# Altium schematic symbol library Schlib2.SchLib: 5 symbols
Pins are listed as number, name and electrical type; pins without a type are passive.

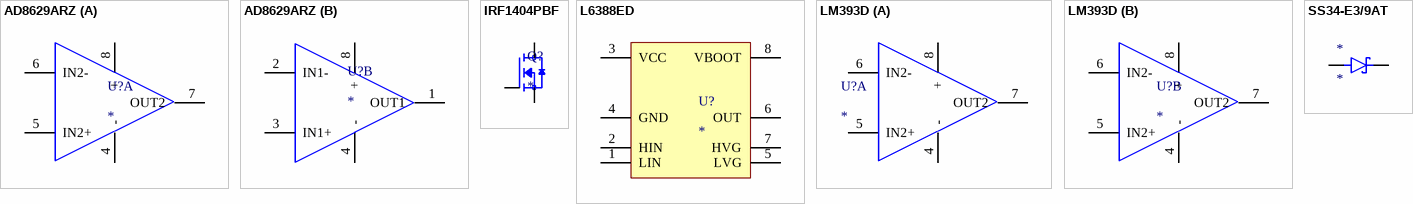
[diagram p0: symbols AD8629ARZ to SS34-E3/9AT]

## AD8629ARZ
designator U?
IC OPAMP ZERO-DRIFT 2 CIRC 8SOIC Zero-Drift Amplifier 2 Circuit Rail-to-Rail 8-SOIC; Manufacturer: Analog Devices; Manufacturer Part Number: AD8629ARZ; Manufacturer Lifecycle Status: PRODUCTION; -3db Bandwidth: 2.5MHz; Common Mode Rejection Ratio: 140dB; Gain: 120dB; Input Bias Current: 30pA; Input Capacitance: 10pF; Input Offset Voltage (Vos): 5µV; Max Dual Supply Voltage: 2.5V; Max Supply Current: 2.2mA; Max Supply Voltage: 5V; Min Dual Supply Voltage: 1.35V; Min Supply Voltage: 2.7V; Number of Amplifiers: 2; Operating Supply Voltage: 3V; Output Current per Channel: 30mA; Power Supply Rejection Ratio (PSRR): 130dB; Quiescent Current: 1.1mA; Slew Rate: 1V/µs; Voltage Gain: 145dB; Supplier 1: Arrow Electronics; RoHS: Compliant; Category: Amplifiers - Op Amps, Buffer, Instrumentation; Stock 1: 3408; Pricing 1: 1=6,808, 10=4,527, 25=3,207, 98=2,961, 294=2,8, 588=2,655 (USD); Bandwidth: 2.5MHz; Case/Package: R; Contact Plating: Tin; Gain Bandwidth Product: 2.5MHz; Height: 1.5mm; Length: 5mm; Lifecycle Status: Production; Max Operating Temperature: 125°C; Min Operating Temperature: -40°C; Number of Channels: 2; Number of Circuits: 2; Number of Elements: 2; Number of Pins: 8; Operating Supply Current: 2.2mA; Radiation Hardening: No; REACH SVHC: No; Schedule B: 8542330000; Width: 4mm; ComponentLink1URL: https://datasheet.octopart.com:443/AD8629ARZ-Analog-Devices-datasheet-42968418.pdf?src-supplier=Analog+Devices; ComponentLink1Description: https://datasheet.octopart.com:443/AD8629ARZ-Analog-Devices-datasheet-42968418.pdf?src-supplier=Analog+Devices; ComponentLink2URL: https://octopart.com:443/opatz8j6/c1?t=aWeMBPM-JELAnCcbC-n1WTTrasgumx2A8BiJtAhLoS8u_17NOkMzPt3gzRWoakvQXXH3NC3R8gFX4G48g061UaBXGwogGE1Uj-8sqvtrqgK1sY7jDh3eWAwH1CQwPW1Jv6IADWKJqAiwnXxASv0RMDRSm7LbjcggLYfRMDkPTzyCQChyI1msocHWpd5h7OrGjev3Iz3E-o2_l5cB9yrdImHcqb4LtoQO-WcXBt-1DHy8NwqhYNIhrkYjFsx4VNs9gn0Mq788wCztvxO1GP0L9zgs0I_y0NnBDPP4_fEzu3H-nfdZ63w&src-supplier=Analog+Devices; ComponentLink2Description: https://octopart.com:443/opatz8j6/c1?t=aWeMBPM-JELAnCcbC-n1WTTrasgumx2A8BiJtAhLoS8u_17NOkMzPt3gzRWoakvQXXH3NC3R8gFX4G48g061UaBXGwogGE1Uj-8sqvtrqgK1sY7jDh3eWAwH1CQwPW1Jv6IADWKJqAiwnXxASv0RMDRSm7LbjcggLYfRMDkPTzyCQChyI1msocHWpd5h7OrGjev3Iz3E-o2_l5cB9yrdImHcqb4LtoQO-WcXBt-1DHy8NwqhYNIhrkYjFsx4VNs9gn0Mq788wCztvxO1GP0L9zgs0I_y0NnBDPP4_fEzu3H-nfdZ63w&src-supplier=Analog+Devices; ComponentLink3URL: https://datasheet.octopart.com:443/AD8629ARZ-Analog-Devices-datasheet-10103768.pdf?src-supplier=Upverter; ComponentLink3Description: https://datasheet.octopart.com:443/AD8629ARZ-Analog-Devices-datasheet-10103768.pdf?src-supplier=Upverter; ComponentLink4URL: https://datasheet.octopart.com:443/AD8629ARZ-Analog-Devices-datasheet-5322301.pdf?src-supplier=Upverter; ComponentLink4Description: https://datasheet.octopart.com:443/AD8629ARZ-Analog-Devices-datasheet-5322301.pdf?src-supplier=Upverter; ComponentLink5URL: https://datasheet.octopart.com:443/AD8629ARZ-Analog-Devices-datasheet-23752859.pdf?src-supplier=Upverter; ComponentLink5Description: https://datasheet.octopart.com:443/AD8629ARZ-Analog-Devices-datasheet-23752859.pdf?src-supplier=Upverter; ComponentLink6URL: https://datasheet.octopart.com:443/AD8629ARZ-Analog-Devices-datasheet-8858042.pdf?src-supplier=Upverter; ComponentLink6Description: https://datasheet.octopart.com:443/AD8629ARZ-Analog-Devices-datasheet-8858042.pdf?src-supplier=Upverter; ComponentLink7URL: https://datasheet.octopart.com:443/AD8629ARZ-Analog-Devices-datasheet-32048149.pdf?src-supplier=element14+APAC; ComponentLink7Description: https://datasheet.octopart.com:443/AD8629ARZ-Analog-Devices-datasheet-32048149.pdf?src-supplier=element14+APAC; ComponentLink8URL: https://datasheet.octopart.com:443/AD8629ARZ-Analog-Devices-datasheet-101563144.pdf?src-supplier=element14+APAC; ComponentLink8Description: https://datasheet.octopart.com:443/AD8629ARZ-Analog-Devices-datasheet-101563144.pdf?src-supplier=element14+APAC; ComponentLink9URL: https://datasheet.octopart.com:443/AD8629ARZ-Analog-Devices-datasheet-9458.pdf?src-supplier=TME; ComponentLink9Description: https://datasheet.octopart.com:443/AD8629ARZ-Analog-Devices-datasheet-9458.pdf?src-supplier=TME; ComponentLink10URL: https://datasheet.octopart.com:443/AD8629ARZ-Analog-Devices-datasheet-14139723.pdf?src-supplier=iiiC; ComponentLink10Description: https://datasheet.octopart.com:443/AD8629ARZ-Analog-Devices-datasheet-14139723.pdf?src-supplier=iiiC; ComponentLink11URL: https://datasheet.octopart.com:443/AD8629ARZ-Analog-Devices-datasheet-9815337.pdf?src-supplier=RS+(Formerly+Allied+Electronics); ComponentLink11Description: https://datasheet.octopart.com:443/AD8629ARZ-Analog-Devices-datasheet-9815337.pdf?src-supplier=RS+(Formerly+Allied+Electronics); ComponentLink12URL: http://sigma.octopart.com:80/conflict_mineral_statement/Analog-Devices-company-33.pdf?src-supplier=Compliance+Statements; ComponentLink12Description: http://sigma.octopart.com:80/conflict_mineral_statement/Analog-Devices-company-33.pdf?src-supplier=Compliance+Statements; ComponentLink13URL: https://octopart.com:443/opatz8j6/c1?t=GuIiLQSqHR5UtH-ccvOgZ_rMPgdoDO9MBhNGz1lrC6uFtX1Ty2dLJJE3esEi3LdxH2WSZGSDEcND3r14vXW1YQGdY8YbjY8rd4j2rV3vc971hwplIN7mnrJEC29glHuaUEUKb6evx9vL8H9Okke6qfKuVvzeC_JtJbwHi1gEpzxsUdW9RNtRF7Nil8ktKupsHU6F-uGzSovI8YJeOX7T-MxaDqzLTa9fFFbbKuS3iXo0ronF4OJTx1UqYg6AqVsvYcdlTWC_iXVQ4-Dde1iCmj54rakYuCUCE_xobSzT3w-tBTMj6Ew&src-supplier=Compliance+Statements; ComponentLink13Description: https://octopart.com:443/opatz8j6/c1?t=GuIiLQSqHR5UtH-ccvOgZ_rMPgdoDO9MBhNGz1lrC6uFtX1Ty2dLJJE3esEi3LdxH2WSZGSDEcND3r14vXW1YQGdY8YbjY8rd4j2rV3vc971hwplIN7mnrJEC29glHuaUEUKb6evx9vL8H9Okke6qfKuVvzeC_JtJbwHi1gEpzxsUdW9RNtRF7Nil8ktKupsHU6F-uGzSovI8YJeOX7T-MxaDqzLTa9fFFbbKuS3iXo0ronF4OJTx1UqYg6AqVsvYcdlTWC_iXVQ4-Dde1iCmj54rakYuCUCE_xobSzT3w-tBTMj6Ew&src-supplier=Compliance+Statements; Supplier Part Number 1: AD8629ARZ
footprint AD8629ARZ
part A pins: 4 -, 5 IN2+, 6 IN2-, 7 OUT2, 8 +
part B pins: 1 OUT1, 2 IN1-, 3 IN1+, 4 -, 8 +

## IRF1404PBF
designator Q?
Single N-Channel 40 V 0.004 Ohm 196 nC HEXFET® Power Mosfet - TO-220-3; Manufacturer: Infineon; Manufacturer Part Number: IRF1404PBF; Continuous Drain Current (ID): 75A; Current Rating: 162A; Drain to Source Breakdown Voltage: 40V; Drain to Source Resistance: 4mΩ; Fall Time: 33ns; Gate to Source Voltage (Vgs): 20V; Input Capacitance: 5.669nF; Max Junction Temperature (Tj): 175°C; Max Power Dissipation: 200W; Nominal Vgs: 4V; Number of Channels: 1; Recovery Time: 117ns; Rise Time: 190ns; Turn-Off Delay Time: 46ns; Turn-On Delay Time: 17ns; Supplier 1: Arrow Electronics; RoHS: Compliant; Category: MOSFETs; Stock 1: 284019; Pricing 1: 1=0,5792 (USD); Case/Package: TO-220AB; China RoHS: Non-Compliant; Contact Plating: Tin; Drain to Source Voltage (Vdss): 40V; Dual Supply Voltage: 40V; Element Configuration: Single; Height: 19.8mm; Lead Free: Lead Free; Lead Pitch: 2.54mm; Length: 10.668mm; Lifecycle Status: Production; Max Operating Temperature: 175°C; Min Breakdown Voltage: 40V; Min Operating Temperature: -55°C; Mount: Through Hole; Number of Elements: 1; Number of Pins: 3; Number of Terminals: 3; On-State Resistance: 4mΩ; Package Quantity: 1000; Packaging: Bulk; Power Dissipation: 200W; Radiation Hardening: No; Rds On Max: 4mΩ; REACH SVHC: Yes; Resistance: 4mΩ; Schedule B: 8541290080, 8541290080|8541290080, 8541290080|8541290080|8541290080, 8541290080|8541290080|8541290080|8541290080; Termination: Through Hole; Threshold Voltage: 4V; Voltage Rating (DC): 40V; Width: 4.826mm; ComponentLink1URL: https://datasheet.octopart.com:443/IRF1404PBF-Infineon-datasheet-180066866.pdf?src-supplier=IHS; ComponentLink1Description: https://datasheet.octopart.com:443/IRF1404PBF-Infineon-datasheet-180066866.pdf?src-supplier=IHS; ComponentLink2URL: https://datasheet.octopart.com:443/IRF1404PBF-Infineon-datasheet-62314054.pdf?src-supplier=IHS; ComponentLink2Description: https://datasheet.octopart.com:443/IRF1404PBF-Infineon-datasheet-62314054.pdf?src-supplier=IHS; ComponentLink3URL: https://datasheet.octopart.com:443/IRF1404PBF-Infineon-datasheet-8117651.pdf?src-supplier=IHS; ComponentLink3Description: https://datasheet.octopart.com:443/IRF1404PBF-Infineon-datasheet-8117651.pdf?src-supplier=IHS; ComponentLink4URL: https://datasheet.octopart.com:443/IRF1404PBF-Infineon-datasheet-10898762.pdf?src-supplier=Factory+Futures; ComponentLink4Description: https://datasheet.octopart.com:443/IRF1404PBF-Infineon-datasheet-10898762.pdf?src-supplier=Factory+Futures; ComponentLink5URL: https://datasheet.octopart.com:443/IRF1404PBF-Infineon-datasheet-8329159.pdf?src-supplier=Factory+Futures; ComponentLink5Description: https://datasheet.octopart.com:443/IRF1404PBF-Infineon-datasheet-8329159.pdf?src-supplier=Factory+Futures; ComponentLink6URL: https://datasheet.octopart.com:443/IRF1404PBF-International-Rectifier-datasheet-7273.pdf?src-supplier=Newark; ComponentLink6Description: https://datasheet.octopart.com:443/IRF1404PBF-International-Rectifier-datasheet-7273.pdf?src-supplier=Newark; ComponentLink7URL: https://datasheet.octopart.com:443/IRF1404PBF-International-Rectifier-datasheet-14061466.pdf?src-supplier=iiiC; ComponentLink7Description: https://datasheet.octopart.com:443/IRF1404PBF-International-Rectifier-datasheet-14061466.pdf?src-supplier=iiiC; ComponentLink8URL: https://datasheet.octopart.com:443/IRF1404-International-Rectifier-datasheet-10847710.pdf?src-supplier=iiiC; ComponentLink8Description: https://datasheet.octopart.com:443/IRF1404-International-Rectifier-datasheet-10847710.pdf?src-supplier=iiiC; ComponentLink9URL: https://datasheet.octopart.com:443/IRF1404PBF-Infineon-datasheet-10021476.pdf?src-supplier=RS+(Formerly+Allied+Electronics); ComponentLink9Description: https://datasheet.octopart.com:443/IRF1404PBF-Infineon-datasheet-10021476.pdf?src-supplier=RS+(Formerly+Allied+Electronics); ComponentLink10URL: https://datasheet.octopart.com:443/IRF1404PBF-International-Rectifier-datasheet-7628077.pdf?src-supplier=Jameco; ComponentLink10Description: https://datasheet.octopart.com:443/IRF1404PBF-International-Rectifier-datasheet-7628077.pdf?src-supplier=Jameco; ComponentLink11URL: https://datasheet.octopart.com:443/IRF1404PBF-International-Rectifier-datasheet-8134560.pdf?src-supplier=Farnell; ComponentLink11Description: https://datasheet.octopart.com:443/IRF1404PBF-International-Rectifier-datasheet-8134560.pdf?src-supplier=Farnell; ComponentLink12URL: https://datasheet.octopart.com:443/IRF1404PBF-International-Rectifier-datasheet-90335.pdf?src-supplier=DigiKey; ComponentLink12Description: https://datasheet.octopart.com:443/IRF1404PBF-International-Rectifier-datasheet-90335.pdf?src-supplier=DigiKey; ComponentLink13URL: http://sigma.octopart.com:80/conflict_mineral_statement/Infineon-company-51.pdf?src-supplier=Compliance+Statements; ComponentLink13Description: http://sigma.octopart.com:80/conflict_mineral_statement/Infineon-company-51.pdf?src-supplier=Compliance+Statements; ComponentLink14URL: http://sigma.octopart.com:80/rohs_statement/International-Rectifier-company-54.pdf?src-supplier=Compliance+Statements; ComponentLink14Description: http://sigma.octopart.com:80/rohs_statement/International-Rectifier-company-54.pdf?src-supplier=Compliance+Statements; ComponentLink15URL: http://sigma.octopart.com:80/reach_statement/International-Rectifier-company-55.pdf?src-supplier=Compliance+Statements; ComponentLink15Description: http://sigma.octopart.com:80/reach_statement/International-Rectifier-company-55.pdf?src-supplier=Compliance+Statements; Supplier Part Number 1: IRF1404PBF
footprint TO220 AB
pins: 1 G, 2 D, 3 S

## L6388ED
designator U?
Driver 2-OUT High and Low Side Half Brdg 8-Pin SO N Tube / IC DRIVER HI/LO SIDE HV 8-SOIC; Manufacturer: STMicroelectronics; Manufacturer Part Number: L6388ED; Fall Time: 80ns; Frequency: 400kHz; Max Output Current: 650mA; Max Power Dissipation: 750mW; Max Supply Voltage: 17V; Min Supply Voltage: 9.6V; Number of Channels: 2; Number of Circuits: 1; Operating Supply Voltage: 15V; Output Voltage: 580V; Propagation Delay: 300ns; Rise Time: 100ns; Turn-Off Delay Time: 220ns; Turn-On Delay Time: 300ps; Undervoltage Threshold: 8.3V; Supplier 1: Arrow Electronics; RoHS: Compliant; Category: Gate Drivers; Stock 1: 2600; Pricing 1: 1=1,0333 (USD); Case/Package: SOIC; China RoHS: Compliant; Height: 1.25mm; Height - Seated (Max): 1.75mm; Lead Free: Lead Free; Length: 4.9mm; Lifecycle Status: Production; Max Frequency: 400kHz; Max Operating Temperature: 125°C; Min Operating Temperature: -45°C; Mount: Surface Mount; Number of Drivers: 2; Number of Outputs: 2; Number of Pins: 8; Number of Terminals: 8; Output Current: 650mA; Power Dissipation: 750mW; Radiation Hardening: No; REACH SVHC: Yes; Schedule B: 8542390000; Terminal Pitch: 1.27mm; Width: 3.9mm; ComponentLink1URL: https://datasheet.octopart.com:443/L6388ED-STMicroelectronics-datasheet-62333103.pdf?src-supplier=SHENGYU+ELECTRONICS; ComponentLink1Description: https://datasheet.octopart.com:443/L6388ED-STMicroelectronics-datasheet-62333103.pdf?src-supplier=SHENGYU+ELECTRONICS; ComponentLink2URL: https://datasheet.octopart.com:443/L6388ED-STMicroelectronics-datasheet-11582381.pdf?src-supplier=STMicroelectronics; ComponentLink2Description: https://datasheet.octopart.com:443/L6388ED-STMicroelectronics-datasheet-11582381.pdf?src-supplier=STMicroelectronics; ComponentLink3URL: https://datasheet.octopart.com:443/L6388ED-STMicroelectronics-datasheet-10836942.pdf?src-supplier=STMicroelectronics; ComponentLink3Description: https://datasheet.octopart.com:443/L6388ED-STMicroelectronics-datasheet-10836942.pdf?src-supplier=STMicroelectronics; ComponentLink4URL: https://datasheet.octopart.com:443/L6388ED-STMicroelectronics-datasheet-14897280.pdf?src-supplier=Newark; ComponentLink4Description: https://datasheet.octopart.com:443/L6388ED-STMicroelectronics-datasheet-14897280.pdf?src-supplier=Newark; ComponentLink5URL: https://datasheet.octopart.com:443/L6388ED-STMicroelectronics-datasheet-33008772.pdf?src-supplier=Newark; ComponentLink5Description: https://datasheet.octopart.com:443/L6388ED-STMicroelectronics-datasheet-33008772.pdf?src-supplier=Newark; ComponentLink6URL: https://datasheet.octopart.com:443/L6388ED-STMicroelectronics-datasheet-12523894.pdf?src-supplier=Future+Electronics; ComponentLink6Description: https://datasheet.octopart.com:443/L6388ED-STMicroelectronics-datasheet-12523894.pdf?src-supplier=Future+Electronics; ComponentLink7URL: https://datasheet.octopart.com:443/L6388ED-STMicroelectronics-datasheet-551241.pdf?src-supplier=Future+Electronics; ComponentLink7Description: https://datasheet.octopart.com:443/L6388ED-STMicroelectronics-datasheet-551241.pdf?src-supplier=Future+Electronics; ComponentLink8URL: https://datasheet.octopart.com:443/L6388ED-STMicroelectronics-datasheet-14156329.pdf?src-supplier=iiiC; ComponentLink8Description: https://datasheet.octopart.com:443/L6388ED-STMicroelectronics-datasheet-14156329.pdf?src-supplier=iiiC; Supplier Part Number 1: L6388ED
footprint SOIC 8
pins: 1 LIN, 2 HIN, 3 VCC, 4 GND, 5 LVG, 6 OUT, 7 HVG, 8 VBOOT

## LM393D
designator U?
LM393 Series Dual 36 V 250 nA SMT Low Power Voltage Comparator - SOIC-8; Manufacturer: STMicroelectronics; Manufacturer Part Number: LM393D; Dual Supply Voltage: 9V; Input Bias Current: 250nA; Input Offset Voltage (Vos): 9mV; Max Dual Supply Voltage: 18V; Max Junction Temperature (Tj): 150°C; Max Power Dissipation: 710mW; Max Supply Current: 2.5mA; Max Supply Voltage: 36V; Min Dual Supply Voltage: 1V; Min Supply Voltage: 2V; Natural Thermal Resistance: 125°C/W; Nominal Supply Current: 1mA; Number of Channels: 2; Operating Supply Voltage: 5V; Output Current per Channel: 18mA; Output Type: TTL; Propagation Delay: 1.3µs; Voltage Gain: 106.02dB; Supplier 1: Arrow Electronics; RoHS: Compliant; Category: Comparators; Stock 1: 279976; Pricing 1: 1=0,3302, 10=0,325, 25=0,324, 100=0,322, 250=0,32, 2000=0,319, 4000=0,238 (USD); Ambient Temperature Range High: 70°C; Case/Package: SO; China RoHS: Compliant; Height: 1.75mm; Height - Seated (Max): 1.75mm; Lead Free: Lead Free; Length: 4.9mm; Lifecycle Status: Production; Max Input Current: 250nA; Max Operating Temperature: 70°C; Min Operating Temperature: 0°C; Mount: Surface Mount; Number of Circuits: 2; Number of Elements: 2; Number of Pins: 8; Number of Terminals: 8; Power Dissipation: 710mW; Quiescent Current: 2.5mA; Radiation Hardening: No; REACH SVHC: Yes; Response Time: 1.3µs; Schedule B: 8542390000, 8542390000|8542390000, 8542390000|8542390000|8542390000, 8542390000|8542390000|8542390000|8542390000; Terminal Pitch: 1.27mm; Turn-On Delay Time: 1.3µs; Type: General Purpose; Weight: 4.535924g; Width: 3.9mm; ComponentLink1URL: https://datasheet.octopart.com:443/LM393D-STMicroelectronics-datasheet-62333484.pdf?src-supplier=SHENGYU+ELECTRONICS; ComponentLink1Description: https://datasheet.octopart.com:443/LM393D-STMicroelectronics-datasheet-62333484.pdf?src-supplier=SHENGYU+ELECTRONICS; ComponentLink2URL: https://datasheet.octopart.com:443/LM393D-STMicroelectronics-datasheet-11803910.pdf?src-supplier=element14+APAC; ComponentLink2Description: https://datasheet.octopart.com:443/LM393D-STMicroelectronics-datasheet-11803910.pdf?src-supplier=element14+APAC; ComponentLink3URL: https://datasheet.octopart.com:443/LM393D-STMicroelectronics-datasheet-10410545.pdf?src-supplier=Future+Electronics; ComponentLink3Description: https://datasheet.octopart.com:443/LM393D-STMicroelectronics-datasheet-10410545.pdf?src-supplier=Future+Electronics; ComponentLink4URL: https://datasheet.octopart.com:443/LM393D-STMicroelectronics-datasheet-21220619.pdf?src-supplier=Future+Electronics; ComponentLink4Description: https://datasheet.octopart.com:443/LM393D-STMicroelectronics-datasheet-21220619.pdf?src-supplier=Future+Electronics; ComponentLink5URL: https://datasheet.octopart.com:443/LM393D-STMicroelectronics-datasheet-14897319.pdf?src-supplier=TME; ComponentLink5Description: https://datasheet.octopart.com:443/LM393D-STMicroelectronics-datasheet-14897319.pdf?src-supplier=TME; ComponentLink6URL: https://datasheet.octopart.com:443/LM393D-STMicroelectronics-datasheet-163154.pdf?src-supplier=element14; ComponentLink6Description: https://datasheet.octopart.com:443/LM393D-STMicroelectronics-datasheet-163154.pdf?src-supplier=element14; ComponentLink7URL: https://datasheet.octopart.com:443/LM393D-STMicroelectronics-datasheet-616567.pdf?src-supplier=element14; ComponentLink7Description: https://datasheet.octopart.com:443/LM393D-STMicroelectronics-datasheet-616567.pdf?src-supplier=element14; ComponentLink8URL: https://datasheet.octopart.com:443/LM393D-STMicroelectronics-datasheet-8451836.pdf?src-supplier=Farnell; ComponentLink8Description: https://datasheet.octopart.com:443/LM393D-STMicroelectronics-datasheet-8451836.pdf?src-supplier=Farnell; ComponentLink9URL: https://datasheet.octopart.com:443/LM393D-STMicroelectronics-datasheet-7654.pdf?src-supplier=Nu+Horizons; ComponentLink9Description: https://datasheet.octopart.com:443/LM393D-STMicroelectronics-datasheet-7654.pdf?src-supplier=Nu+Horizons; ComponentLink10URL: https://datasheet.octopart.com:443/LM393D-STMicroelectronics-datasheet-14143375.pdf?src-supplier=iiiC; ComponentLink10Description: https://datasheet.octopart.com:443/LM393D-STMicroelectronics-datasheet-14143375.pdf?src-supplier=iiiC; ComponentLink11URL: https://datasheet.octopart.com:443/LM393D-STMicroelectronics-datasheet-9797164.pdf?src-supplier=RS+(Formerly+Allied+Electronics); ComponentLink11Description: https://datasheet.octopart.com:443/LM393D-STMicroelectronics-datasheet-9797164.pdf?src-supplier=RS+(Formerly+Allied+Electronics); ComponentLink12URL: https://datasheet.octopart.com:443/LM393D-STMicroelectronics-datasheet-52703.pdf?src-supplier=RS+(Formerly+Allied+Electronics); ComponentLink12Description: https://datasheet.octopart.com:443/LM393D-STMicroelectronics-datasheet-52703.pdf?src-supplier=RS+(Formerly+Allied+Electronics); Supplier Part Number 1: LM393D
footprint LM393
part A pins: 4 -, 5 IN2+, 6 IN2-, 7 OUT2, 8 +
part B pins: 4 -, 5 IN2+, 6 IN2-, 7 OUT2, 8 +

## SS34-E3/9AT
designator *
Rectifier Diode, Schottky, 1 Phase, 1 Element, 3A, 40V V(RRM), Silicon, DO-214AB; Manufacturer: Vishay; Manufacturer Part Number: SS34-E3/9AT; Element Configuration: Single; Forward Voltage: 500mV; Max Forward Surge Current (Ifsm): 100A; Max Junction Temperature (Tj): 150°C; Max Reverse Leakage Current: 500µA; Number of Elements: 1; Supplier 1: Avnet; RoHS: Compliant; Category: Rectifier Diodes; Stock 1: 31500; Pricing 1: 3500=0,08437 (USD); Average Rectified Current: 3A; Case/Package: SMC; China RoHS: Non-Compliant; Forward Current: 3A; Height: 2.62mm; Lifecycle Status: Production; Max Operating Temperature: 150°C; Max Output Current: 3A; Max Repetitive Reverse Voltage (Vrrm): 40V; Max Reverse Voltage (DC): 40V; Max Surge Current: 100A; Min Operating Temperature: -55°C; Mount: Surface Mount; Number of Pins: 2; Number of Terminals: 2; Peak Non-Repetitive Surge Current: 100A; Peak Reverse Current: 500µA; Radiation Hardening: No; REACH SVHC: No; Reverse Standoff Voltage: 40V; Reverse Voltage: 40V; Schedule B: 8541100080, 8541100080|8541100080|8541100080|8541100080|8541100080; ComponentLink1URL: https://datasheet.octopart.com:443/SS34-E3-9AT-Vishay-datasheet-181475108.pdf?src-supplier=IHS; ComponentLink1Description: https://datasheet.octopart.com:443/SS34-E3-9AT-Vishay-datasheet-181475108.pdf?src-supplier=IHS; ComponentLink2URL: https://datasheet.octopart.com:443/SS34-E3-9AT-Vishay-datasheet-138899081.pdf?src-supplier=Upverter; ComponentLink2Description: https://datasheet.octopart.com:443/SS34-E3-9AT-Vishay-datasheet-138899081.pdf?src-supplier=Upverter; ComponentLink3URL: https://datasheet.octopart.com:443/SS34-E3-9AT-Vishay-datasheet-188933186.pdf?src-supplier=TME; ComponentLink3Description: https://datasheet.octopart.com:443/SS34-E3-9AT-Vishay-datasheet-188933186.pdf?src-supplier=TME; ComponentLink4URL: https://datasheet.octopart.com:443/SS34-E3-9AT-Vishay-datasheet-15599040.pdf?src-supplier=Future+Electronics; ComponentLink4Description: https://datasheet.octopart.com:443/SS34-E3-9AT-Vishay-datasheet-15599040.pdf?src-supplier=Future+Electronics; ComponentLink5URL: https://datasheet.octopart.com:443/SS34-E3/9AT-Vishay-datasheet-11610764.pdf?src-supplier=Arrow+Electronics; ComponentLink5Description: https://datasheet.octopart.com:443/SS34-E3/9AT-Vishay-datasheet-11610764.pdf?src-supplier=Arrow+Electronics; ComponentLink6URL: http://sigma.octopart.com:80/rohs_statement/Vishay-company-15.pdf?src-supplier=Compliance+Statements; ComponentLink6Description: http://sigma.octopart.com:80/rohs_statement/Vishay-company-15.pdf?src-supplier=Compliance+Statements; Supplier Part Number 1: SS34-E3/9AT
footprint SS34
pins: A, C K